# EAGLE library part K6R4008V1C (library MakBit)
Samsung K6R4008V1C CMOS SRAM 512Kx8 Bit High Speed Static RAM(3.3V Operating). Fast Access Time 10,12,15ns(Max.) TTL Compatible Inputs and Outputs No Clock or Refresh required Standard Pin Configuration K6R4008V1C-J : 36-SOJ-400 K6R4008V1C-T : 44-TSOP2-400BF
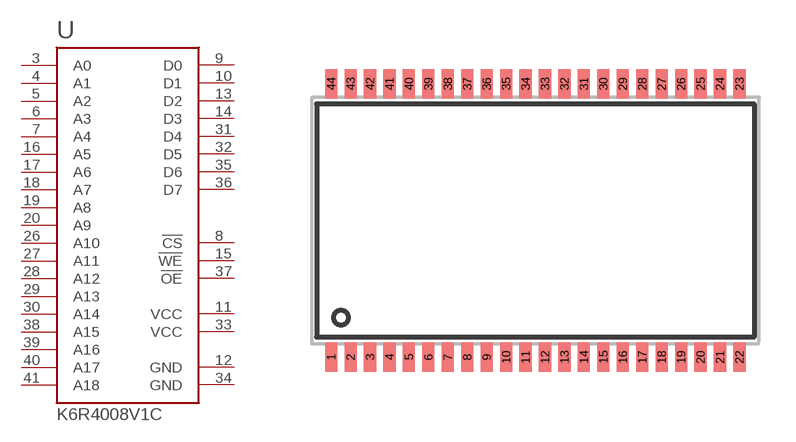
[diagram p1: symbol with the pads of TSOP2-44-400BF; footprint TSOP2-44-400BF]

Designator prefix U

## K6R4008V1C  [TSOP2-44-400BF]
3  A0  in
4  A1  in
5  A2  in
6  A3  in
7  A4  in
8  !CS  in
9  D0
10  D1
11  VCC  pwr
12  GND  pwr
13  D2
14  D3
15  !WE  in
16  A5  in
17  A6  in
18  A7  in
19  A8  in
20  A9  in
26  A10  in
27  A11  in
28  A12  in
29  A13  in
30  A14  in
31  D4
32  D5
33  VCC  pwr
34  GND  pwr
35  D6
36  D7
37  !OE  in
38  A15  in
39  A16  in
40  A17  in
41  A18  in

## Footprint TSOP2-44-400BF (pad centres in mm)
44 PIN TSOP2-400BF Source: SAMSUNG K6R4008V1C K6R4008V1C-C/C-L, K6R4008V1C-I/C-P, IS61LV25616AL 18.4 x 10.2 mm
smd 0.5 x 1.2: 1 -8.4,-5.627; 2 -7.6,-5.627; 3 -6.8,-5.627; 4 -6,-5.627; 5 -5.2,-5.627; 6 -4.4,-5.627; 7 -3.6,-5.627; 8 -2.8,-5.627; 9 -2,-5.627; 10 -1.2,-5.627; 11 -0.4,-5.627; 12 0.4,-5.627; 13 1.2,-5.627; 14 2,-5.627; 15 2.8,-5.627; 16 3.6,-5.627; 17 4.4,-5.627; 18 5.2,-5.627; 19 6,-5.627; 20 6.8,-5.627; 21 7.6,-5.627; 22 8.4,-5.627; 23 8.4,5.627; 24 7.6,5.627; 25 6.8,5.627; 26 6,5.627; 27 5.2,5.627; 28 4.4,5.627; 29 3.6,5.627; 30 2.8,5.627; 31 2,5.627; 32 1.2,5.627; 33 0.4,5.627; 34 -0.4,5.627; 35 -1.2,5.627; 36 -2,5.627; 37 -2.8,5.627; 38 -3.6,5.627; 39 -4.4,5.627; 40 -5.2,5.627; 41 -6,5.627; 42 -6.8,5.627; 43 -7.6,5.627; 44 -8.4,5.627